# EAGLE library part NTZD3152P (library ELL-i-DiscreteSemi)
OnSemi dual P-channel Small Signal MOSFET 20V 430mA Datasheet <http://www.onsemi.com/pub_link/Collateral/NTZD3152P-D.PDF> (from onsemi)
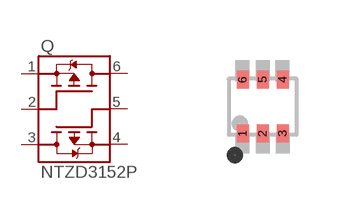
[diagram p0: symbol with the pads of SOT-563; footprint SOT-563]

Designator prefix Q

## NTZD3152P (VALUE: NTZD3152P)  [SOT-563]
1  S1  pas
2  G1  pas
3  D2  pas
4  S2  pas
5  G2  pas
6  D1  pas

## Footprint SOT-563 (pad centres in mm)
Small Outline Transistor; 6 leads Reflow soldering
smd 0.3 x 0.45: 1 -0.5,-0.674; 2 0,-0.674; 3 0.5,-0.674; 4 0.5,0.674; 5 0,0.674; 6 -0.5,0.674